# EAGLE library part CORTEX_PROG (library maxorig)
2x3 0.1' connector for programming and debugging Cortex M0(+) MCUs Has auxiliary pin broken out for extra testing functionality
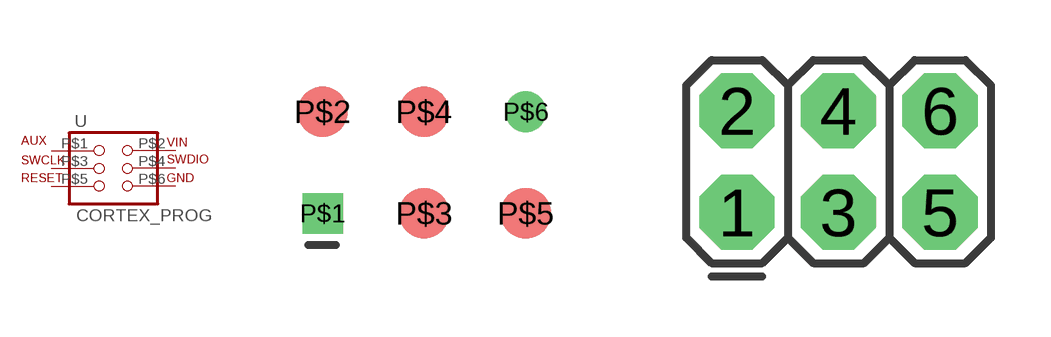
[diagram p3: symbol with the pads of 2X3_MAX; footprints 2X3_MAX, 2X3]

Designator prefix -

## CORTEX_PROGPOGO  [2X3_MAX]
P$1  AUX  pas
P$2  VIN  pas
P$3  SWCLK  pas
P$4  SWDIO  pas
P$5  RST  pas
P$6  GND  pas

## CORTEX_PROG  [2X3]
1  AUX  pas
2  VIN  pas
3  SWCLK  pas
4  SWDIO  pas
5  RST  pas
6  GND  pas

## CORTEX_PROGLOCK  [2X3_LOCK]
Pads as for 2X3

## CORTEX_PROGLONGPADS  [2X3_OFFSET]
Pads as for 2X3

## CORTEX_PROGVIAS  [2X3_TEST_POINTS]
Pads as for 2X3

## CORTEX_PROGNOSILK  [2X3-NS]
Pads as for 2X3

## Footprint 2X3_MAX (pad centres in mm)
drill 0.508 square: P$1 -2.54,-1.27
smd 1.27 x 1.27: P$2 -2.54,1.27; P$3 0,-1.27; P$4 0,1.27; P$5 2.54,-1.27
drill 0.508: P$6 2.54,1.27

## Footprint 2X3 (pad centres in mm)
drill 1.016 pad 1.88 octagon: 1 0,0; 2 0,2.54; 3 2.54,0; 4 2.54,2.54; 5 5.08,0; 6 5.08,2.54

## Footprint 2X3_LOCK (pad centres in mm)
drill 1.016 pad 1.88 octagon: 1 0,0; 2 0,2.54; 3 2.54,-0.254; 4 2.54,2.286; 5 5.08,0; 6 5.08,2.54

## Footprint 2X3_OFFSET (pad centres in mm)
drill 1.118 pad 1.88 offset: 1 -2.54,-1.27; 2 -2.54,1.27; 3 0,-1.27; 4 0,1.27; 5 2.54,-1.27; 6 2.54,1.27

## Footprint 2X3_TEST_POINTS (pad centres in mm)
drill 0.508: 1 -2.54,-1.27; 2 -2.54,1.27; 3 0,-1.27; 4 0,1.27; 5 2.54,-1.27; 6 2.54,1.27

## Footprint 2X3-NS (pad centres in mm)
drill 1.016 pad 1.88 square: 1 -2.54,-1.27
drill 1.016 pad 1.88 octagon: 2 -2.54,1.27; 3 0,-1.27; 4 0,1.27; 5 2.54,-1.27; 6 2.54,1.27